# EAGLE library part CAN_9Z (library #PaJa_konektory)
Konektory CANNON - zasuvka - 9pinu
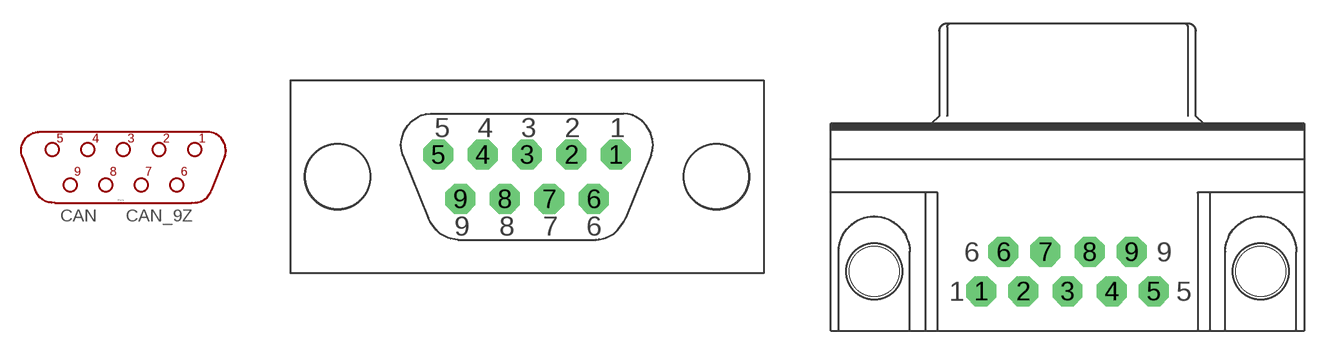
[diagram p1: symbol with the pads of CAN9Z; footprints CAN9Z, CAN9Z/90]

Designator prefix CAN

## CAN_9Z_/0  [CAN9Z]
1  1  pas
2  2  pas
3  3  pas
4  4  pas
5  5  pas
6  6  pas
7  7  pas
8  8  pas
9  9  pas

## CAN_9Z_/90  [CAN9Z/90]
Pads as for CAN9Z

## Footprint CAN9Z (pad centres in mm)
drill 1.016 pad 1.93 octagon: 1 5.715,0; 2 2.857,0; 3 0,0; 4 -2.857,0; 5 -5.715,0; 6 4.286,-2.857; 7 1.429,-2.857; 8 -1.429,-2.857; 9 -4.286,-2.857
hole 4.115 at 12.192,-1.429
hole 4.115 at -12.192,-1.429

## Footprint CAN9Z/90 (pad centres in mm)
drill 1.016 pad 1.93 octagon: 1 -5.556,0; 2 -2.857,0; 3 0,0; 4 2.857,0; 5 5.556,0; 6 -4.128,2.54; 7 -1.429,2.54; 8 1.429,2.54; 9 4.128,2.54
hole 3.2 at 12.446,1.27
hole 3.2 at -12.446,1.27